# Altium schematic symbol library Encoder_Optico.SchLib: 1 symbol
Pins are listed as number, name and electrical type; pins without a type are passive.

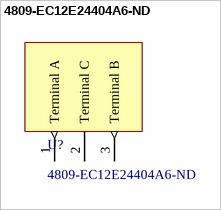
[diagram p0: symbol 4809-EC12E24404A6-ND]

## 4809-EC12E24404A6-ND
designator U?
Rotary Position Encoder, Single, 2 Channels; Manufacturer: ALPS; Built in Switch: No; Hole Diameter: 2mm; Number of Channels: 2; Number of Circuits: 1; Operating Supply Voltage: 5V; Pulses per Revolution: 24; Supplier: DigiKey; Supplier Part Number: 4809-EC12E24404A6-ND; Manufacturer Part Number: EC12E24404A6; RoHS: Compliant; Category: Sensors; Stock: 2128; Pricing: 1=2,36, 5=2,026, 10=1,898, 25=1,74, 40=1,66425, 80=1,55838, 230=1,40943, 440=1,32475, 945=1,23103 (USD); Lifecycle Status: Production; Max Operating Temperature: 70°C; Min Operating Temperature: -10°C; Mounting Technology: Through Hole; Radiation Hardening: No; REACH SVHC: No; Termination: Solder; ComponentLink1URL: https://datasheet.octopart.com:443/EC12E24404A6-ALPS-datasheet-181954823.pdf?src-supplier=IHS; ComponentLink1Description: https://datasheet.octopart.com:443/EC12E24404A6-ALPS-datasheet-181954823.pdf?src-supplier=IHS; ComponentLink2URL: https://datasheet.octopart.com:443/EC12E24404A6-ALPS-datasheet-27704593.pdf?src-supplier=IHS; ComponentLink2Description: https://datasheet.octopart.com:443/EC12E24404A6-ALPS-datasheet-27704593.pdf?src-supplier=IHS; Supplier 1: DigiKey; Supplier Part Number 1: 4809-EC12E24404A6-ND
footprint Tray - ALPS Alpine
pins: 1 Terminal A (out), 2 Terminal C (power), 3 Terminal B (out)